# Altium footprint library myPcbLib1.PcbLib: 151 footprints (part 4 of 10)
Each footprint in its own frame and in the unit in brackets; x right, y up, seen from the top. Pads: shape width x height; smd on the part's side, far side on the other; paste and mask are expansions set on the pad; w line width, h text height; cw(c..) or ccw(c..) is an arc to the next point about the centre after c.
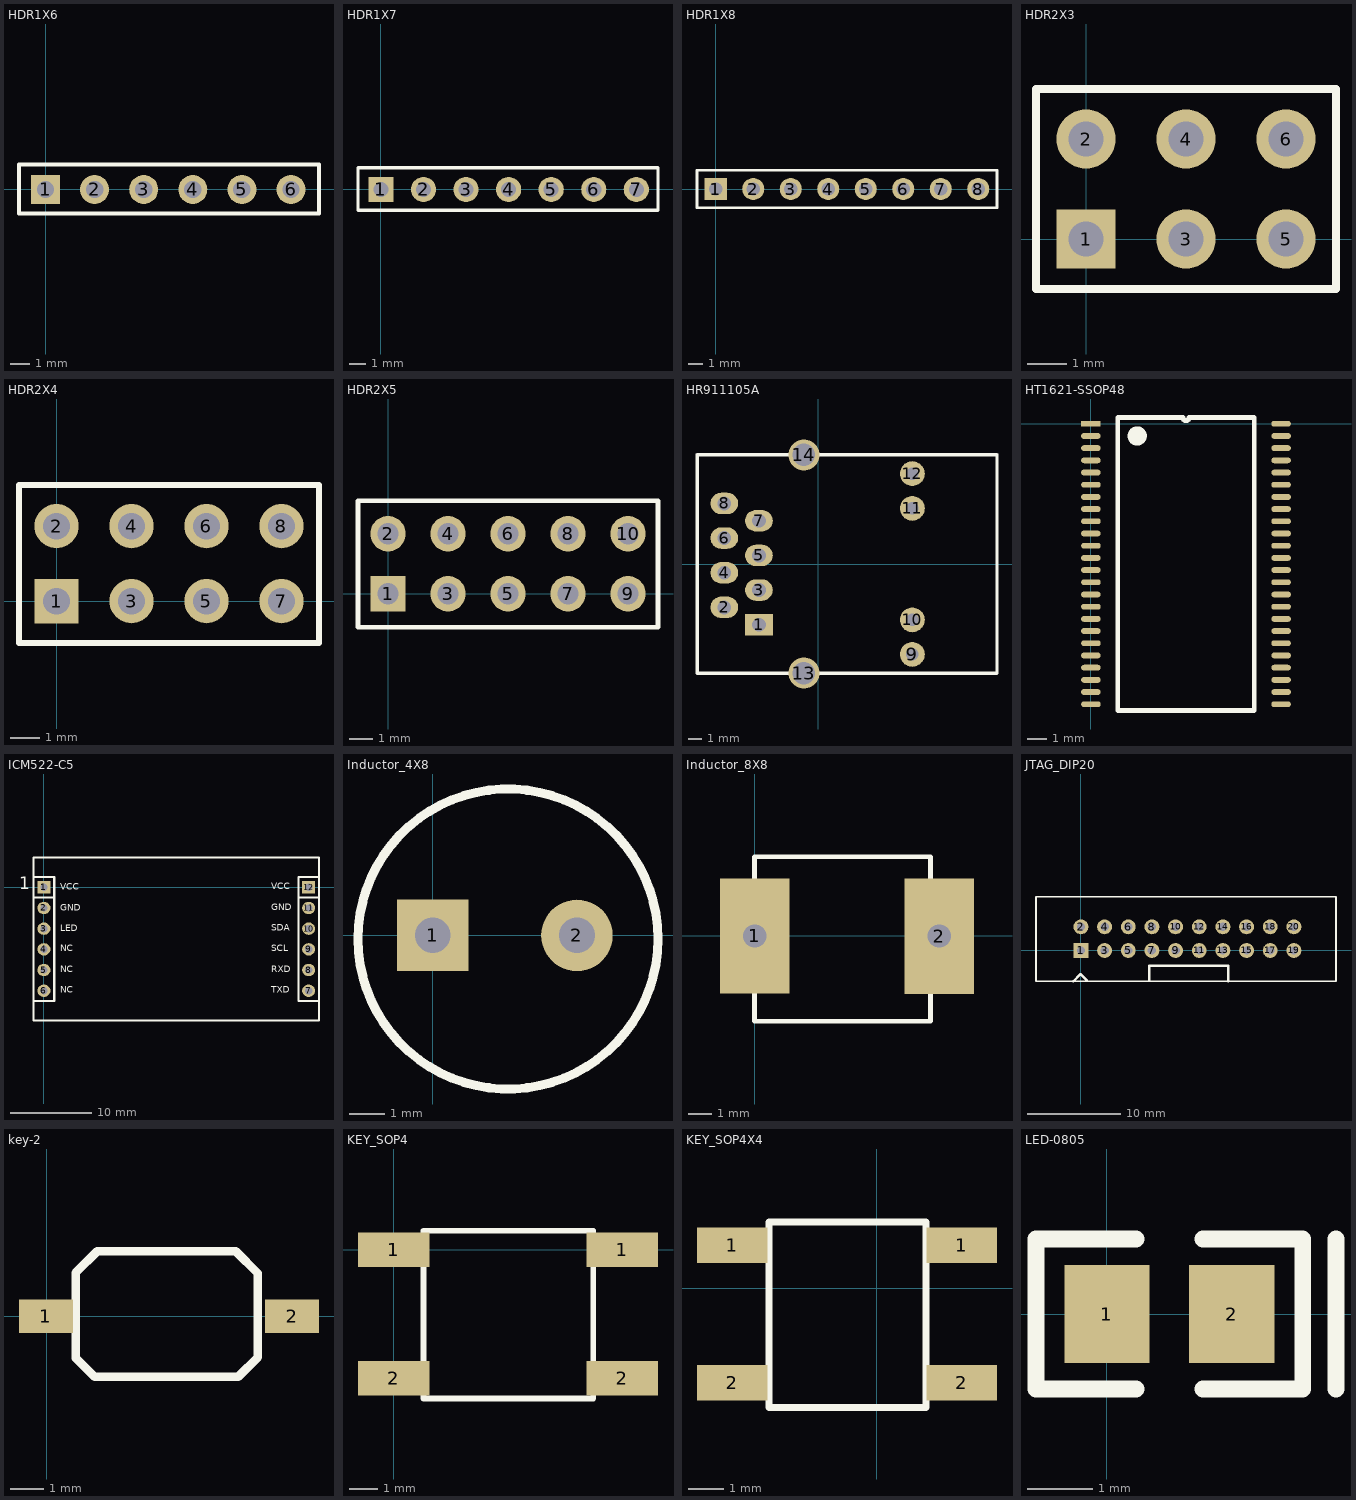
[diagram p3: the footprints below, top view; thin cyan lines are the x and y axes]

## HDR1X6 [mm]
pads (6):
  rect 1.5x1.5 hole 0.9: 1(0,0)
  round 1.5 hole 0.9: 2(2.54,0) 3(5.08,0) 4(7.62,0) 5(10.16,0) 6(12.7,0)
Top Overlay:
  lines w0.2: -1.372,-1.245 -1.372,1.295 14.148,1.295 14.148,-1.245 -1.372,-1.245

## HDR1X7 [mm]
pads (7):
  rect 1.5x1.5 hole 0.9: 1(0,0)
  round 1.5 hole 0.9: 2(2.54,0) 3(5.08,0) 4(7.62,0) 5(10.16,0) 6(12.7,0) 7(15.24,0)
Top Overlay:
  lines w0.2: -1.372,-1.245 16.535,-1.245 16.535,1.295 -1.372,1.295 -1.372,-1.245

## HDR1X8 [mm]
pads (8):
  rect 1.5x1.5 hole 0.9: 1(0,0)
  round 1.5 hole 0.9: 2(2.54,0) 3(5.08,0) 4(7.62,0) 5(10.16,0) 6(12.7,0) 7(15.24,0) 8(17.78,0)
Top Overlay:
  lines w0.2: -1.27,-1.27 19.05,-1.27 19.05,1.27 -1.27,1.27 -1.27,-1.27

## HDR2X3 [mm]
pads (6):
  rect 1.5x1.5 hole 0.9: 1(0,0)
  round 1.5 hole 0.9: 2(0,2.54) 3(2.54,0) 4(2.54,2.54) 5(5.08,0) 6(5.08,2.54)
Top Overlay:
  lines w0.2: 1.482,-1.27 6.35,-1.27 ; 6.35,-1.27 -1.27,-1.27 -1.27,3.81 6.35,3.81 6.35,-1.27

## HDR2X4 [mm]
pads (8):
  rect 1.5x1.5 hole 0.9: 1(0,0)
  round 1.5 hole 0.9: 2(0,2.54) 3(2.54,0) 4(2.54,2.54) 5(5.08,0) 6(5.08,2.54) 7(7.62,0) 8(7.62,2.54)
Top Overlay:
  lines w0.2: -1.27,-1.422 8.89,-1.422 8.89,3.937
  lines w0.203: -1.27,-1.422 -1.27,3.937 8.89,3.937

## HDR2X5 [mm]
pads (10):
  rect 1.5x1.5 hole 0.9: 1(0,0)
  round 1.5 hole 0.9: 2(0,2.54) 3(2.54,0) 4(2.54,2.54) 5(5.08,0) 6(5.08,2.54) 7(7.62,0) 8(7.62,2.54) 9(10.16,0) 10(10.16,2.54)
Top Overlay:
  lines w0.2: -1.27,-1.422 11.43,-1.422 11.43,3.937
  lines w0.203: -1.27,-1.422 -1.27,3.937 11.43,3.937

## HR911105A [mil]
pads (14):
  rect 80x62 hole 40: 1(-171.46,-175.2)
  oval 80x62 hole 40: 2(-271.46,-125.2) 3(-171.46,-75.2) 4(-271.46,-25.2) 5(-171.46,24.8) 6(-271.46,74.8) 7(-171.46,124.8) 8(-271.46,174.8)
  round 72 hole 36: 9(271.46,-260.83) 10(271.46,-161.2) 11(271.46,160.67) 12(271.46,260.8)
  round 90 hole 65: 13(-41.54,-314.96) 14(-41.54,314.96)
Top Overlay:
  lines w10: -350.2,-315.2 -349.96,-314.96 ; -350.2,314.8 -350.04,314.96 ; -350.04,314.96 -41.54,314.96 515.79,314.96 515.95,314.8 515.95,-315.2 515.71,-314.96 -41.54,-314.96 -349.96,-314.96 ; -350.04,314.96 -350.04,-314.88 -349.96,-314.96
Multi-Layer:
  circle w5: c88.54,-225.2 r70.8
  circle w5: c88.54,224.8 r70.8

## HT1621-SSOP48 [mil]
pads (48):
  rect 40x12 smd: 1(0,0)
  oval 40x12 smd: 2(0,-25) 3(0,-50) 4(0,-75) 5(0,-100) 6(0,-125) 7(0,-150) 8(0,-175) 9(0,-200) 10(0,-225) 11(0,-250) 12(0,-275) 13(0,-300) 14(0,-325) 15(0,-350) 16(0,-375) 17(0,-400) 18(0,-425) 19(0,-450) 20(0,-475) 21(0,-500) 22(0,-525) 23(0,-550) 24(0,-575) 25(390,-575) 26(390,-550) 27(390,-525) 28(390,-500) 29(390,-475) 30(390,-450) 31(390,-425) 32(390,-400) 33(390,-375) 34(390,-350) 35(390,-325) 36(390,-300) 37(390,-275) 38(390,-250) 39(390,-225) 40(390,-200) 41(390,-175) 42(390,-150) 43(390,-125) 44(390,-100) 45(390,-75) 46(390,-50) 47(390,-25) 48(390,0)
Top Overlay:
  circle w23.62: c95,-25 r7.81
  lines w10: 55,-587.5 335,-587.5 335,12.5 201.25,12.5 cw(c195,12.5) 188.75,12.5 55,12.5 55,-587.5

## ICM522-C5 [mm]
pads (12):
  rect 1.6x1.5 hole 0.9: 1(0,0) 12(32.487,0)
  oval 1.6x1.5 hole 0.9: 2(0,-2.54) 3(0,-5.08) 4(0,-7.62) 5(0,-10.16) 6(0,-12.7) 7(32.487,-12.7) 8(32.487,-10.16) 9(32.487,-7.62) 10(32.487,-5.08) 11(32.487,-2.54)
Top Overlay:
  lines w0.254: -1.27,-1.27 1.27,-1.27 ; 31.217,-1.27 33.757,-1.27 ; -1.27,-13.97 1.27,-13.97 1.27,1.27 -1.27,1.27 -1.27,-13.97 ; -1.256,-16.35 33.744,-16.35 33.744,3.65 -1.256,3.65 -1.256,-16.35 ; 31.217,-13.97 33.757,-13.97 33.757,1.27 31.217,1.27 31.217,-13.97
  text "RXD" at 27.928,-10.414 h0.8
  text "GND" at 27.928,-2.794 h0.8
  text "TXD" at 27.928,-12.954 h0.8
  text "NC" at 2.02,-12.954 h0.8
  text "NC" at 2.02,-7.874 h0.8
  text "NC" at 2.02,-10.414 h0.8
  text "LED" at 2.023,-5.371 h0.8
  text "SCL" at 27.928,-7.874 h0.8
  text "SDA" at 27.928,-5.334 h0.8
  text "GND" at 2.023,-2.903 h0.8
  text "VCC" at 1.975,-0.325 h0.8
  text "VCC" at 27.928,-0.254 h0.8
  text "1" at -3.06,-0.254 h1.52

## Inductor_4X8 [mm]
pads (2):
  rect 2x2 hole 1: 1(0,0)
  round 2 hole 1: 2(4.039,0)
Top Overlay:
  circle w0.254: c2.108,-0.102 r4.2

## Inductor_8X8 [mm]
pads (2):
  rect 3x5 hole 1: 1(0,0) 2(7.993,-0.003)
Top Overlay:
  lines w0.203: -0.007,-3.686 7.613,-3.686 7.613,3.426 -0.007,3.426 -0.007,3.172 -0.007,-3.686

## JTAG_DIP20 [mm]
pads (20):
  rect 1.6x1.6 hole 0.9: 1(0,0)
  round 1.6 hole 0.9: 2(0,2.54) 3(2.54,0) 4(2.54,2.54) 5(5.08,0) 6(5.08,2.54) 7(7.62,0) 8(7.62,2.54) 9(10.16,0) 10(10.16,2.54) 11(12.7,0) 12(12.7,2.54) 13(15.24,0) 14(15.24,2.54) 15(17.78,0) 16(17.78,2.54) 17(20.32,0) 18(20.32,2.54) 19(22.86,0) 20(22.86,2.54)
Top Overlay:
  lines w0.2: -4.826,0.635 -4.826,5.766 27.381,5.766 27.381,-3.302 -4.826,-3.302 -4.826,1.905
  lines w0.254: -0.813,-3.302 -0.051,-2.54 0.635,-3.226 ; 7.341,-3.226 7.341,-1.651 15.824,-1.651 15.824,-3.302

## key-2 [mm] "3*6*2.5mm"
pads (2):
  rect 1.6x1 smd: 1(-0.025,0) 2(7.29,0)
Top Overlay:
  lines w0.254: 0.864,-1.245 1.422,-1.803 5.69,-1.803 6.274,-1.219 6.274,1.27 5.613,1.93 1.499,1.93 0.864,1.295 0.864,0.508 0.864,-1.245

## KEY_SOP4 [mm]
pads (4):
  rect 2.5x1.2 smd: 1(0,0) 1(8,0) 2(0,-4.5) 2(8,-4.5)
Top Overlay:
  lines w0.2: 1.041,-5.207 1.041,0.66 6.985,0.66 6.985,-5.207 1.041,-5.207

## KEY_SOP4X4 [mm]
pads (4):
  rect 2x1 smd: 1(-4.089,1.219) 1(2.412,1.219) 2(-4.089,-2.671) 2(2.412,-2.671)
Top Overlay:
  lines w0.2: -3.048,-3.378 -3.048,1.88 1.397,1.88 1.397,-3.378 -3.048,-3.378

## LED-0805 [mm]
pads (2):
  rect 1.3x1.5 smd: 1(0,0) 2(1.9,0)
Top Overlay:
  lines w0.254: 0.442,-1.143 -1.082,-1.143 -1.082,1.143 0.442,1.143 ; 1.458,-1.143 2.982,-1.143 2.982,1.143 1.458,1.143 ; 3.49,-1.143 3.49,1.143